# EAGLE library part AP9101CAK6-ABTRG1 (library AP9101CAK6-ABTRG1)
Battery Management Protection IC 1-Cell LI 3.0uA 3.5V Source: Datasheet <https://www.diodes.com/assets/Datasheets/AP9101C.pdf>
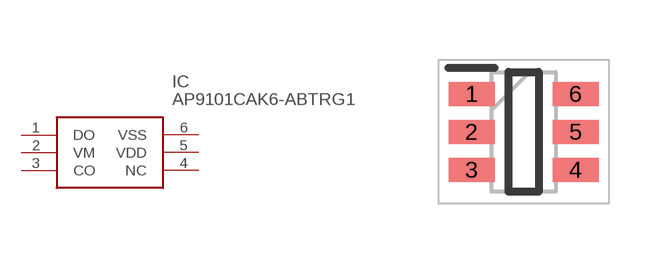
[diagram p0: symbol with the pads of SOT95P285X140-6N; footprint SOT95P285X140-6N]

Designator prefix IC

## AP9101CAK6-ABTRG1 (Description: Battery Management Protection IC 1-Cell LI 3.0uA 3.5V; Height: 1.4mm; Manufacturer_Name: Diodes Inc.; Manufacturer_Part_Number: AP9101CAK6-ABTRG1; Mouser_Part_Number: 621-AP9101CAK6ABTRG1; Mouser_Price-Stock: https://www.mouser.co.uk/ProductDetail/Diodes-Incorporated/AP9101CAK6-ABTRG1?qs=W66WzN12R3Y9HS2QV9IuJA%3D%3D)  [SOT95P285X140-6N]
1  DO
2  VM
3  CO
4  NC  nc
5  VDD
6  VSS

## Footprint SOT95P285X140-6N (pad centres in mm)
SOT26_3
smd 1.15 x 0.6: 1 -1.3,0.95; 2 -1.3,0; 3 -1.3,-0.95; 4 1.3,-0.95; 5 1.3,0; 6 1.3,0.95